# Altium footprint library PLS-4.PcbLib: 1 footprints
Each footprint in its own frame and in the unit in brackets; x right, y up, seen from the top. Pads: shape width x height; smd on the part's side, far side on the other; paste and mask are expansions set on the pad; w line width, h text height; cw(c..) or ccw(c..) is an arc to the next point about the centre after c.
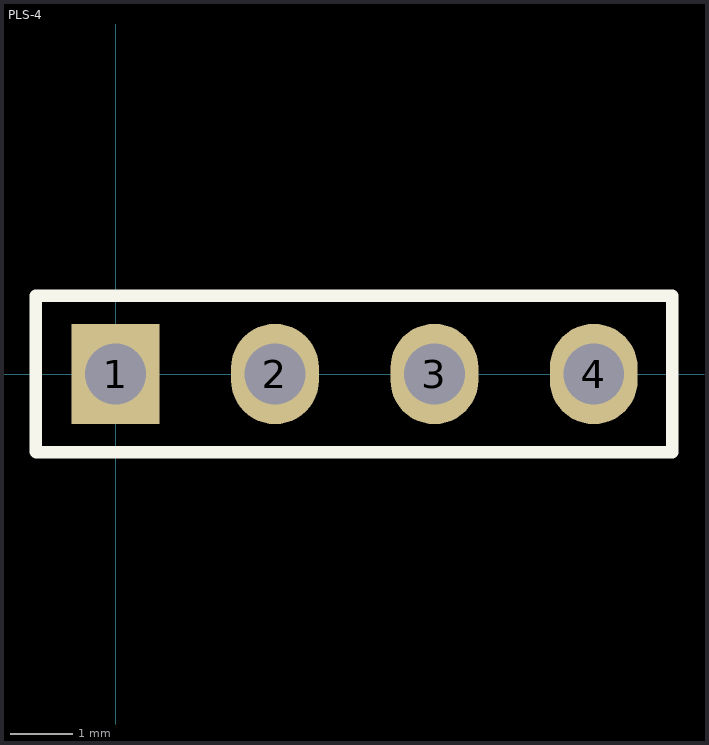
[diagram p0: the footprint, top view; thin cyan lines are the x and y axes]

## PLS-4 [mm] "2.54mm PIN HEADER R/A"
pads (4):
  rect 1.4x1.6 hole 0.97: 1(0,0)
  oval 1.4x1.6 hole 0.97: 2(2.54,0) 3(5.08,0) 4(7.62,0)
Top Overlay:
  lines w0.2: -1.27,-1.24 -1.27,1.25 8.87,1.25 8.87,-1.25 -1.26,-1.25
3D body "PLS-4.STEP": height 9.3, standoff -3.4, extent -1.25,-1.245 8.91,1.295